# EAGLE library part MIC5335-JGYMT (library biomimetic)
Micrel MIC5335 150mA dual (2.5V/1.8V) voltage regulator Digi-Key P/N: 576-3589-6-ND
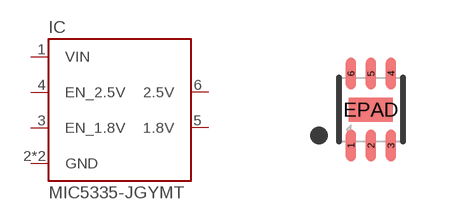
[diagram p2: symbol with the pads of MLF-6; footprint MLF-6]

Designator prefix IC

## MIC5335-JGYMT  [MLF-6]
1  VIN
2  GND
3  EN_1.8V
4  EN_2.5V
5  1.8V
6  2.5V
EPAD  GND

## Footprint MLF-6 (pad centres in mm)
smd 0.25 x 0.8: 1 -0.5,-0.9; 2 0,-0.9; 3 0.5,-0.9; 4 0.5,0.9; 5 0,0.9; 6 -0.5,0.9
smd 1.1 x 0.6: EPAD 0,0